# Altium footprint library CAPACITORS.PcbLib: 24 footprints (part 2 of 2)
Each footprint in its own frame and in the unit in brackets; x right, y up, seen from the top. Pads: shape width x height; smd on the part's side, far side on the other; paste and mask are expansions set on the pad; w line width, h text height; cw(c..) or ccw(c..) is an arc to the next point about the centre after c.
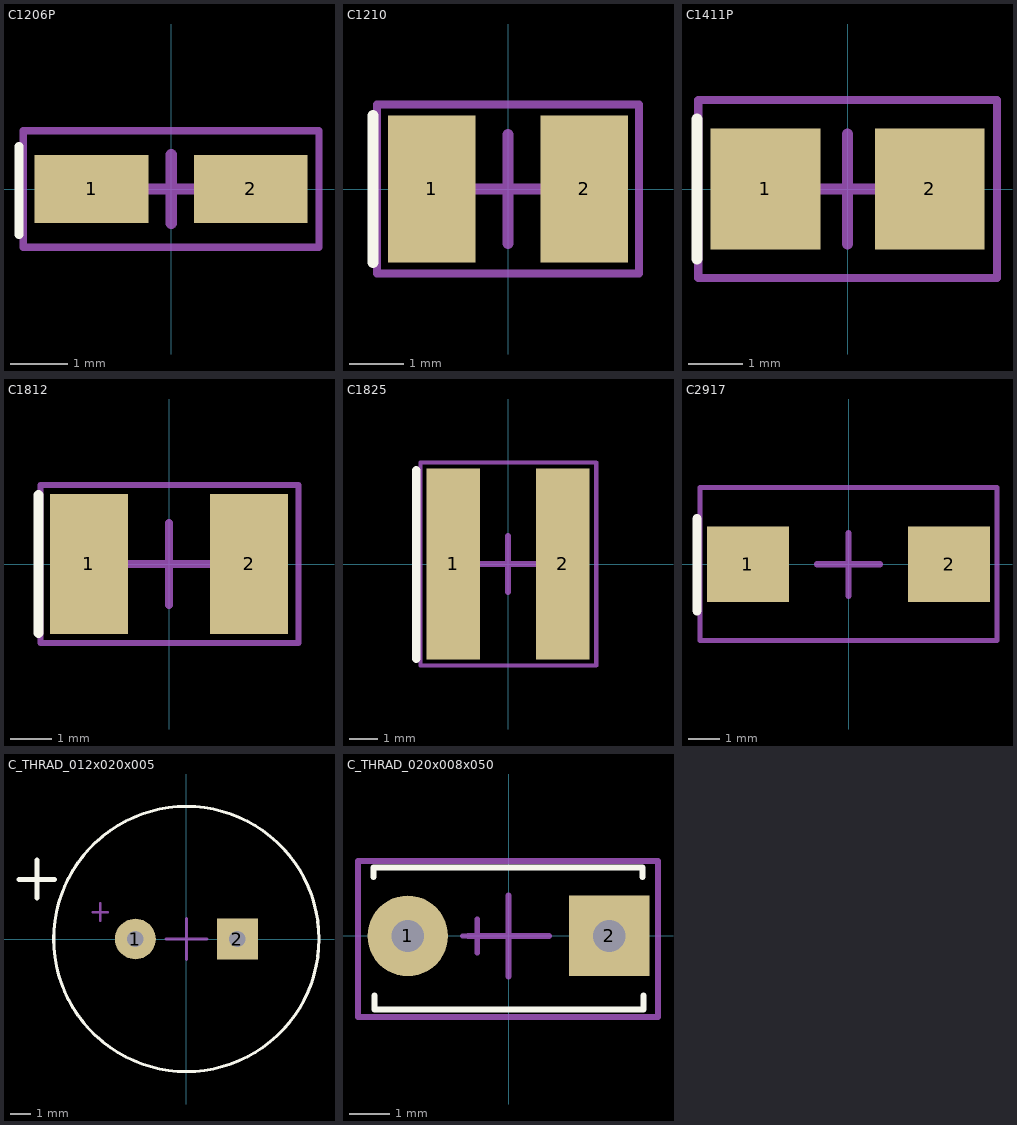
[diagram p1: the footprints below, top view; thin cyan lines are the x and y axes]

## C1206P [mm]
pads (2):
  rect 2x1.2 smd: 1(-1.4,0) 2(1.4,0)
Top Overlay:
  lines w0.15: -2.675,-0.8 -2.675,0.75
Top Assembly:
  lines w0.127: -2.6,-1.025 -2.6,1.025 2.6,1.025 2.6,-1.025 -2.6,-1.025
  text ".Designator" at -1.775,-0.75 h1.5
Top Component Center:
  lines w0.2: -0.6,0 0.6,0 ; 0,-0.6 0,0.6
3D body: height 0.7, standoff 0, extent -1.712,-0.6 -0.887,0.6
3D body: height 1.8, standoff 0.1, extent -1.637,-0.9 1.638,0.9
3D body: height 0.7, standoff 0, extent 0.888,-0.6 1.713,0.6
3D body: height 1.81, standoff 0.1, extent -1.187,-0.888 -0.775,0.888

## C1210 [mm]
pads (2):
  rect 1.6x2.7 smd: 1(-1.4,0) 2(1.4,0)
Top Overlay:
  lines w0.2: -2.475,-1.35 -2.475,1.35
Top Assembly:
  lines w0.15: -2.4,1.55 -2.4,-1.55 2.4,-1.55 2.4,1.55 -2.4,1.55
  text ".Designator" at -1.9,-0.825 h1.5
Top Component Center:
  lines w0.2: -1,0 1,0 ; 0,-1 0,1
3D body: height 1.35, standoff 0, extent -1.675,-1.325 -0.925,1.325
3D body: height 1.34, standoff 0, extent -1.65,-1.312 1.65,1.312
3D body: height 1.35, standoff 0, extent 0.925,-1.325 1.675,1.325

## C1411P [mm]
pads (2):
  rect 2x2.2 smd: 1(-1.5,0) 2(1.5,0)
Top Overlay:
  lines w0.2: -2.749,-1.275 -2.749,1.275
Top Assembly:
  lines w0.15: -2.725,-1.625 2.725,-1.625 2.725,1.625 -2.725,1.625 -2.725,-1.625
  text ".Designator" at -1.9,-0.825 h1.5
Top Component Center:
  lines w0.2: -1,0 1,0 ; 0,-1 0,1
3D body: height 2.11, standoff 0.1, extent -1.175,-1.475 -0.525,1.475
3D body: height 0.7, standoff 0, extent 1.025,-1.094 1.85,1.094
3D body: height 0.7, standoff 0, extent -1.85,-1.088 -1.025,1.1
3D body: height 2.1, standoff 0.1, extent -1.775,-1.5 1.75,1.5

## C1812 [mm]
pads (2):
  rect 1.9x3.4 smd: 1(-1.95,0) 2(1.95,0)
Top Overlay:
  lines w0.25: -3.174,-1.675 -3.174,1.675
Top Assembly:
  lines w0.15: -3.125,-1.925 3.15,-1.925 3.15,1.925 -3.125,1.925 -3.125,-1.925
  text ".Designator" at -1.9,-0.8 h1.5
Top Component Center:
  lines w0.2: -1,0 1,0 ; 0,-1 0,1
3D body: height 1.35, standoff 0, extent 1.45,-1.7 2.4,1.7
3D body: height 1.34, standoff 0, extent -2.375,-1.687 2.375,1.687
3D body: height 1.35, standoff 0, extent -2.4,-1.7 -1.45,1.7

## C1825 [mm]
pads (2):
  rect 1.9x6.8 smd: 1(-1.95,0) 2(1.95,0)
Top Overlay:
  lines w0.3: -3.275,-3.375 -3.275,3.35
Top Assembly:
  lines w0.15: -3.125,-3.625 -3.125,3.625 3.15,3.625 3.15,-3.625 -3.125,-3.625
  text ".Designator" at 0.5,-3.025 h1.5
Top Component Center:
  lines w0.2: -1,0 1,0 ; 0,-1 0,1
3D body: height 1.1, standoff 0, extent 1.45,-3.4 2.4,3.4
3D body: height 1.09, standoff 0, extent -2.375,-3.387 2.375,3.388
3D body: height 1.1, standoff 0, extent -2.4,-3.4 -1.45,3.4

## C2917 [mm]
pads (2):
  rect 2.6x2.4 smd: 1(-3.2,0) 2(3.2,0)
Top Overlay:
  lines w0.3: -4.821,-1.475 -4.821,1.45
Top Assembly:
  lines w0.15: -4.725,-2.425 4.725,-2.425 4.725,2.45 -4.725,2.45 -4.725,-2.425
  text ".Designator" at -3.4,-0.8 h1.8
Top Component Center:
  lines w0.2: -1,0 1,0 ; 0,-1 0,1
3D body: height 3.1, standoff 0.1, extent -3.65,-2.3 3.65,2.3
3D body: height 1, standoff 0, extent -3.8,-1.2 -2.45,1.2
3D body: height 1, standoff 0, extent 2.45,-1.2 3.8,1.2
3D body: height 3.11, standoff 0.1, extent -2.15,-2.275 -1.4,2.275

## C_THRAD_012x020x005 [mm]
pads (2):
  round 2 hole 0.8: 1(-2.5,0)
  rect 2x2 hole 0.8: 2(2.5,0)
Top Overlay:
  circle w0.15: c0,0 r6.5
  lines w0.254: -8.204,2.921 -6.477,2.921 ; -7.315,2.007 -7.315,3.861
Top Solder:
  circle w0.15: c0,0 r6.5
Top Assembly:
  lines w0.127: -4.597,1.321 -3.861,1.321 ; -4.229,0.902 -4.229,1.321 -4.229,1.74
  text ".Designator" at -3.734,-2.718 h0.8
Top Component Center:
  lines w0.15: -1,0 1,0 ; 0,-1 0,1
3D body: height 20, standoff 0, extent -6.5,-6.5 6.5,6.5
3D body: height 1.27, standoff 0, extent -3.975,5.144 -3.975,5.144
3D body: height 1.27, standoff 0, extent -3.975,5.144 -3.975,5.144
3D body: height 1.27, standoff 0, extent -3.975,5.144 -3.975,5.144

## C_THRAD_020x008x050 [mm]
pads (2):
  round 2 hole 0.8: 1(-2.5,0)
  rect 2x2 hole 0.8: 2(2.5,0)
Top Overlay:
  lines w0.15: -3.353,1.467 -3.353,1.702 3.327,1.702 3.327,1.467 ; -3.327,-1.479 -3.327,-1.829 3.353,-1.829 3.353,-1.479
Top Assembly:
  lines w0.127: -1.143,0 -0.406,0 ; -0.775,-0.419 -0.775,0 -0.775,0.419
  lines w0.15: -3.734,-2.007 -3.734,1.854 3.708,1.854 3.708,-2.007 -3.734,-2.007
  text ".Designator" at -2.464,-1.372 h0.8
Top Component Center:
  lines w0.15: -1,0 1,0 ; 0,-1 0,1
3D body: height 1.27, standoff 0, extent -3.975,5.144 -3.975,5.144
3D body: height 1.27, standoff 0, extent -3.975,5.144 -3.975,5.144
3D body: height 1.27, standoff 0, extent -3.975,5.144 -3.975,5.144